# Altium footprint library Hongli-SMD-LED-1206-2.PcbLib: 1 footprints
Each footprint in its own frame and in the unit in brackets; x right, y up, seen from the top. Pads: shape width x height; smd on the part's side, far side on the other; paste and mask are expansions set on the pad; w line width, h text height; cw(c..) or ccw(c..) is an arc to the next point about the centre after c.
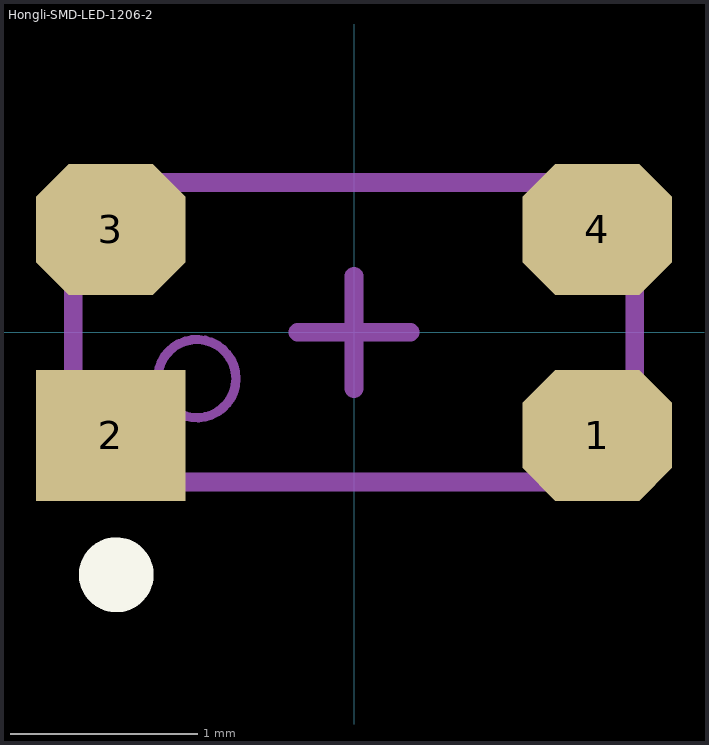
[diagram p0: the footprint, top view; thin cyan lines are the x and y axes]

## Hongli-SMD-LED-1206-2 [mm] "SM RGB LED; 4-Leads; Body 3.2 x 1.5 mm (1206-size)"
height 0.7
pads (4):
  oct 0.8x0.7 smd: 1(1.3,-0.55) 3(-1.3,0.55) 4(1.3,0.55)
  rect 0.8x0.7 smd: 2(-1.3,-0.55)
Top Overlay:
  circle w0.2: c-1.27,-1.295 r0.1
Top Paste:
  rectangle: 1.363,-0.539 1.625,-0.46
Top Solder:
  rectangle: 1.31,-0.557 1.65,-0.463
Mechanical 13:
  circle w0.05: c-0.84,-0.248 r0.209
  lines w0.1: -1.5,-0.8 -1.5,0.8 1.5,0.8 1.5,-0.8 -1.5,-0.8
Mechanical 15:
  lines w0.1: -0.3,0 0.3,0 ; 0,-0.3 0,0.3
3D body: height 0.7, standoff 0.2, extent 0,-0.735 1.011,0.745
3D body: height 0.7, standoff 0.2, extent -1.011,-0.735 0,0.745
3D body: height 0.67, standoff 0.17, extent 0.261,0.14 0.758,0.638
3D body: height 0.67, standoff 0.17, extent 0.261,-0.629 0.758,-0.131
3D body: height 0.67, standoff 0.17, extent -0.752,0.127 -0.254,0.625
3D body: height 0.26, standoff -0.01, extent -1.482,0.252 -0.647,0.763
3D body: height 0.26, standoff -0.01, extent 0.663,0.268 1.498,0.779
3D body: height 0.26, standoff -0.01, extent 0.673,-0.75 1.508,-0.24
3D body: height 0.26, standoff -0.01, extent -1.464,-0.755 -0.628,-0.245
3D body: height 0.25, standoff 0, extent -1.458,-0.741 0.015,0.761
3D body: height 0.25, standoff 0, extent 0.016,-0.742 1.489,0.76